# Altium footprint library 2pinconnector180.PcbLib: 1 footprints
Each footprint in its own frame and in the unit in brackets; x right, y up, seen from the top. Pads: shape width x height; smd on the part's side, far side on the other; paste and mask are expansions set on the pad; w line width, h text height; cw(c..) or ccw(c..) is an arc to the next point about the centre after c.
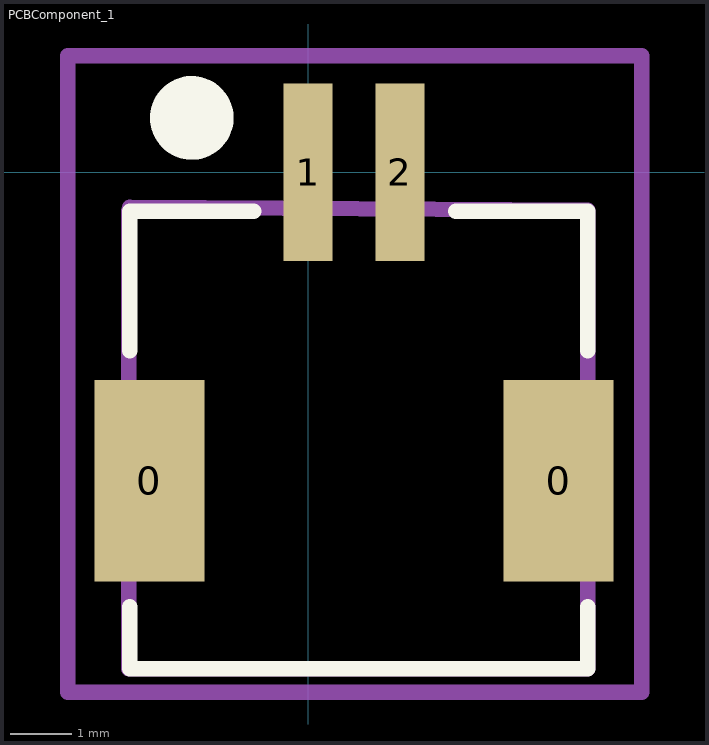
[diagram p0: the footprint, top view; thin cyan lines are the x and y axes]

## PCBComponent_1 [mm]
pads (4):
  rect 1.8x3.3 smd: 0(-2.6,-5.05) 0(4.1,-5.05)
  rect 0.8x2.9 smd: 1(0,0) 2(1.5,0)
Top Overlay:
  circle w0.8: c-1.905,0.889 r0.284
  lines w0.254: -2.921,-7.112 -2.921,-8.128 4.572,-8.128 4.572,-7.112 ; -2.921,-2.921 -2.921,-0.635 -0.889,-0.635 ; 2.413,-0.635 4.572,-0.635 4.572,-2.921
Mechanical 13:
  lines w0.254: -2.94,-8.128 4.56,-8.128 ; -2.933,-8.128 -2.933,-0.628 ; -2.921,-0.57 4.579,-0.623 4.579,-8.123
Mechanical 15:
  lines w0.254: -3.937,-8.509 5.461,-8.509 5.461,1.905 -3.937,1.905 -3.937,-8.509
3D body "SM02B-ZESS-TB.STEP": height 5.91, standoff 0.01, extent -2.988,-8.195 4.512,0.505